# Altium schematic symbol library ADR4525.SchLib: 1 symbol
Pins are listed as number, name and electrical type; pins without a type are passive.

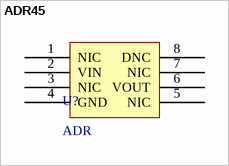
[diagram p0: symbol ADR45]

## ADR45
designator U?, comment ADR
footprint SOP8_N (5*6*1.8mm（长宽高）)
pins: 1 NIC, 2 VIN, 3 NIC, 4 GND, 5 NIC, 6 VOUT, 7 NIC, 8 DNC